# Altium footprint library 杂项库.PcbLib: 585 footprints (part 26 of 37)
Each footprint in its own frame and in the unit in brackets; x right, y up, seen from the top. Pads: shape width x height; smd on the part's side, far side on the other; paste and mask are expansions set on the pad; w line width, h text height; cw(c..) or ccw(c..) is an arc to the next point about the centre after c.
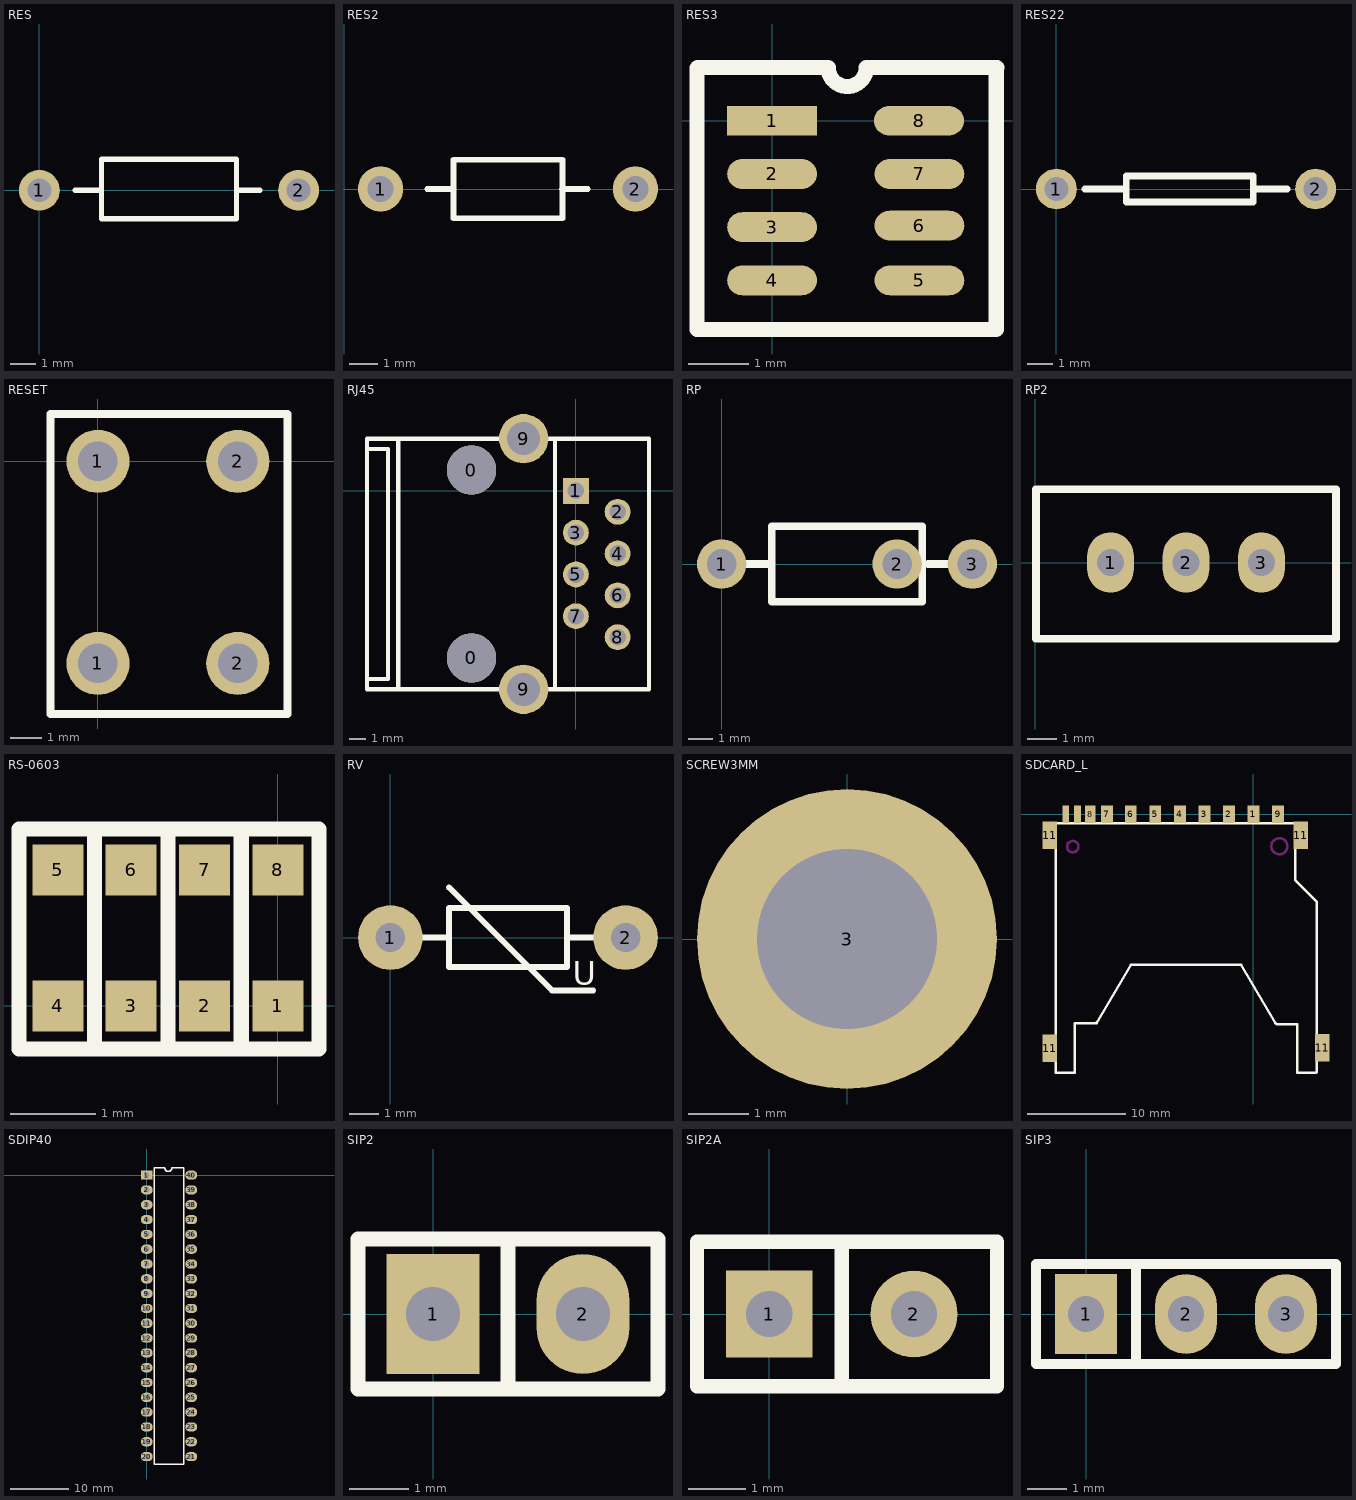
[diagram p25: the footprints below, top view; thin cyan lines are the x and y axes]

## RES [mil]
pads (2):
  round 62 hole 36: 1(0,0) 2(393.7,0)
Top Overlay:
  lines w7.87: 54.13,0 94.49,0 ; 299.21,0 334.65,0 ; 94.49,0 94.49,-43.31 299.21,-43.31 299.21,47.24 94.49,47.24 94.49,0

## RES2 [mil]
pads (2):
  round 62 hole 36: 1(50,0) 2(400,0)
Top Overlay:
  lines w7.87: 114.13,0 150,0 ; 299.21,0 334.65,0 ; 150,0 150,-40 300,-40 300,40 150,40 150,0

## RES3 [mm]
pads (8):
  rect 1.5x0.5 smd: 1(0,0)
  oval 1.5x0.5 smd: 2(0,-0.889) 3(0,-1.778) 4(0,-2.667) 5(2.464,-2.667) 6(2.464,-1.753) 7(2.464,-0.889) 8(2.456,0)
Top Overlay:
  lines w0.254: -1.254,-3.488 -1.254,0.576 -1.254,0.88 -1.245,0.889 0.94,0.889 ccw(c1.257,0.889) 1.575,0.889 3.759,0.889 3.746,0.876 3.746,0.576 3.746,-3.488 -1.254,-3.488

## RES22 [mil]
pads (2):
  round 62 hole 36: 1(0,0) 2(393.7,0)
Top Overlay:
  lines w10: 43.31,0 106.3,0 ; 299.21,0 350.39,0 ; 106.3,-19.68 106.3,19.68 299.21,19.68 299.21,-19.68 106.3,-19.68

## RESET [mil]
pads (4):
  round 80 hole 50: 1(0,-255.91) 1(0,0) 2(177.16,-255.91) 2(177.16,0)
Top Overlay:
  lines w10: -60,-320 240,-320 240,60 -60,60 -60,-320

## RJ45 [mil]
pads (12):
  round 118.11 hole 118.11: 0(-250,-400) 0(-250,50)
  rect 62x62 hole 40: 1(0,0)
  round 62 hole 40: 2(100,-50) 3(0,-100) 4(100,-150) 5(0,-200) 6(100,-250) 7(0,-300) 8(100,-350)
  round 118.11 hole 78.74: 9(-125,-475) 9(-125,125)
Top Overlay:
  lines w10: -500,-450 -450,-450 -450,100 -500,100 ; -425,-475 -425,125 ; -50,-475 -50,125 ; -500,-475 -500,125 175,125 175,-475 -500,-475

## RP [mm]
pads (3):
  round 2 hole 1.2: 1(0,0) 2(7.112,0) 3(10.16,0)
Top Overlay:
  lines w0.305: 1.016,0 2.032,0 ; 8.382,0 9.144,0 ; 2.032,-1.524 8.128,-1.524 8.128,1.524 2.032,1.524 2.032,-1.524

## RP2 [mil]
pads (3):
  oval 62x80 hole 36: 1(100,0) 2(200,0) 3(300,0)
Top Overlay:
  lines w10: 1.18,-101.18 1.18,97.24 398.82,97.24 398.82,-101.18 1.18,-101.18

## RS-0603 [mm]
pads (8):
  rect 0.6x0.6 smd: 1(0,0) 2(-0.864,0) 3(-1.727,0) 4(-2.591,0) 5(-2.591,1.6) 6(-1.727,1.6) 7(-0.864,1.6) 8(0,1.6)
Top Overlay:
  lines w0.178: -3.048,2.057 -3.048,-0.508 0.483,-0.508 0.483,-0.483 0.483,2.083 -3.048,2.083 ; -2.159,-0.483 -2.159,2.083 ; -1.295,-0.508 -1.295,2.083 ; -0.432,-0.483 -0.432,2.083

## RV [mm]
pads (2):
  round 2.2 hole 1: 1(0,0) 2(8,0)
Top Overlay:
  lines w0.2: 0,0 2,0 ; 2,1.7 5.5,-1.8 6.9,-1.8 ; 6,0 8,0 ; 2,-1 6,-1 6,1 2,1 2,-1
  text "U" at 6.2,-1.6 h0.8

## SCREW3MM [mm]
pads (1):
  round 5 hole 3: 3(0,0)

## SDCARD_L [mm]
pads (15):
  rect 1.2x1.8 smd: 1(0,0) 2(-2.489,0) 3(-4.983,-0.009) 4(-7.483,-0.009) 5(-9.983,-0.009) 6(-12.483,-0.009) 7(-14.908,-0.009) 9(2.517,-0.009)
  rect 1.1x1.8 smd: 8(-16.612,0)
  rect 0.7x1.8 smd: 10(-17.908,-0.009) 12(-19.101,0)
  rect 1.5x2.8 smd: 11(-20.726,-23.834) 11(-20.726,-2.143) 11(4.826,-2.143) 11(7.01,-23.784)
Top Overlay:
  lines w0.254: -18.158,-21.3 -18.158,-26.3 -20.131,-26.3 -20.131,-0.914 -20.117,-0.9 4.242,-0.9 4.242,-6.71 6.431,-8.899 6.442,-8.899 6.442,-26.273 6.415,-26.3 4.442,-26.3 4.442,-21.402 2.4,-21.402 2.242,-21.244 ; -18.107,-21.294 -16.065,-21.294 -15.907,-21.136 ; -15.958,-21.294 -12.446,-15.3 ; -12.458,-15.3 -1.258,-15.3 2.242,-21.294
Keep-Out Layer:
  circle w0.254: c2.642,-3.26 r0.82
  circle w0.254: c-18.39,-3.3 r0.58

## SDIP40 [mil]
pads (40):
  rect 80x62 hole 36: 1(0,0)
  oval 80x62 hole 36: 2(0,-100) 3(0,-200) 4(0,-300) 5(0,-400) 6(0,-500) 7(0,-600) 8(0,-700) 9(0,-800) 10(0,-900) 11(0,-1000) 12(0,-1100) 13(0,-1200) 14(0,-1300) 15(0,-1400) 16(0,-1500) 17(0,-1600) 18(0,-1700) 19(0,-1800) 20(0,-1900) 21(300,-1900) 22(300,-1800) 23(300,-1700) 24(300,-1600) 25(300,-1500) 26(300,-1400) 27(300,-1300) 28(300,-1200) 29(300,-1100) 30(300,-1000) 31(300,-900) 32(300,-800) 33(300,-700) 34(300,-600) 35(300,-500) 36(300,-400) 37(300,-300) 38(300,-200) 39(300,-100) 40(300,0)
Top Overlay:
  lines w10: 50,-1950 50,50 120,50 ccw(c145,50) 170,50 250,50 250,-1950 50,-1950

## SIP2 [mil]
pads (2):
  rect 62x80 hole 36: 1(0,0)
  oval 62x80 hole 36: 2(100,0)
Top Overlay:
  lines w10: 50,-50 50,50 ; -50,-50 -50,50 150,50 150,-50 -50,-50

## SIP2A [mil]
pads (2):
  rect 60x60 hole 32: 1(0,0)
  round 60 hole 32: 2(100,0)
Top Overlay:
  lines w10: 50,-50 50,50 ; -50,-50 157.48,-50 157.48,50 -50,50 -50,-50

## SIP3 [mil]
pads (3):
  rect 62x80 hole 36: 1(0,0)
  oval 62x80 hole 36: 2(100,0) 3(200,0)
Top Overlay:
  lines w10: 50,-50 50,50 ; -50,-50 250,-50 250,50 -50,50 -50,-50